# Altium footprint library MODULE_INA219.PcbLib: 1 footprints
Each footprint in its own frame and in the unit in brackets; x right, y up, seen from the top. Pads: shape width x height; smd on the part's side, far side on the other; paste and mask are expansions set on the pad; w line width, h text height; cw(c..) or ccw(c..) is an arc to the next point about the centre after c.
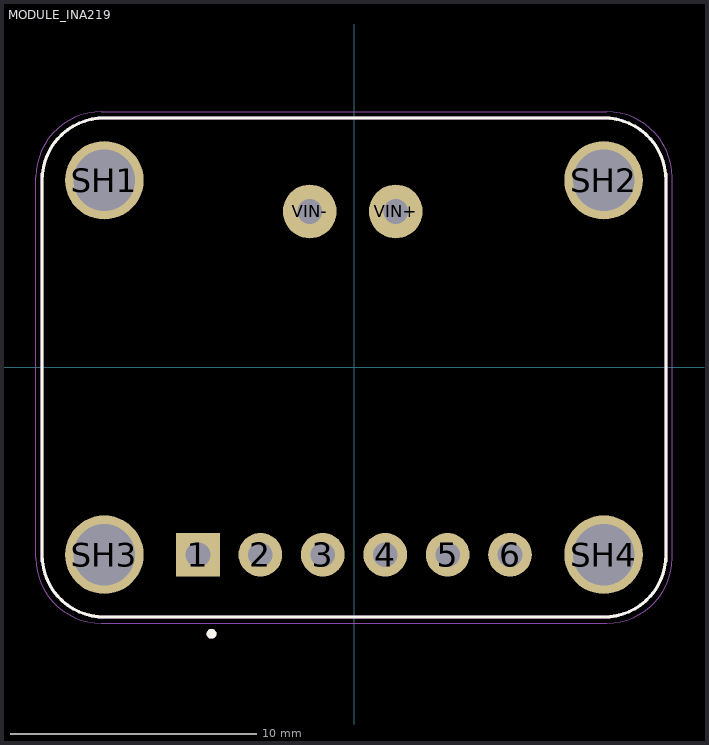
[diagram p0: the footprint, top view; thin cyan lines are the x and y axes]

## MODULE_INA219 [mm]
pads (12):
  rect 1.778x1.778 / inner round 1.778 / far side rect 1.778x1.778 hole 1: 1(-6.35,-7.62)
  round 1.778 hole 1: 2(-3.81,-7.62) 3(-1.27,-7.62) 4(1.27,-7.62) 5(3.81,-7.62) 6(6.35,-7.62)
  round 3.2 hole 2.5: SH1(-10.16,7.62) SH2(10.16,7.62) SH3(-10.16,-7.62) SH4(10.16,-7.62)
  round 2.184 hole 1: VIN+(1.7,6.35) VIN-(-1.8,6.35)
Top Overlay:
  circle w0.2: c-5.8,-10.84 r0.1
  lines w0.127: -12.7,-7.62 ccw(c-10.16,-7.62) -10.16,-10.16 10.16,-10.16 ccw(c10.16,-7.62) 12.7,-7.62 12.7,7.62 ccw(c10.16,7.62) 10.16,10.16 -10.16,10.16 ccw(c-10.16,7.62) -12.7,7.62 -12.7,-7.62
Assembly Top:
  circle w0.2: c-5.8,-10.84 r0.1
  lines w0.127: -12.7,-7.62 ccw(c-10.16,-7.62) -10.16,-10.16 10.16,-10.16 ccw(c10.16,-7.62) 12.7,-7.62 12.7,7.62 ccw(c10.16,7.62) 10.16,10.16 -10.16,10.16 ccw(c-10.16,7.62) -12.7,7.62 -12.7,-7.62
Courtyard Top:
  lines w0.05: -12.95,-7.745 ccw(c-10.285,-7.745) -10.285,-10.41 10.285,-10.41 ccw(c10.285,-7.745) 12.95,-7.745 12.95,7.74 ccw(c10.28,7.74) 10.28,10.41 -10.28,10.41 ccw(c-10.28,7.74) -12.95,7.74 -12.95,-7.745